# EAGLE library part 74AC11021 (library 74ac-logic)
Dual 4-input AND
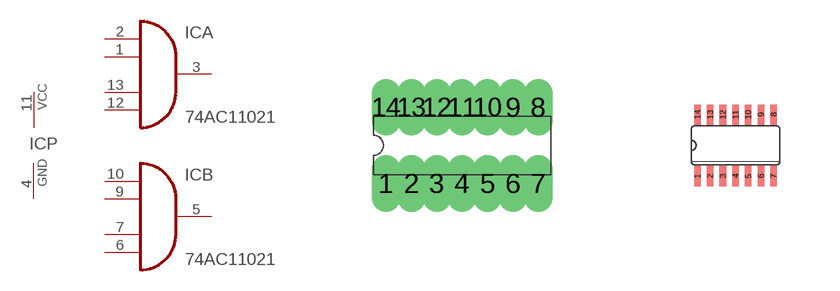
[diagram p7: symbol with the pads of DIL14; footprints DIL14, SO14]

Designator prefix IC; gates A=7411021 B=7411021 P=PWRN

## 74AC11021  [DIL14]
1  A:I1  in
2  A:I0  in
3  A:O  out
4  P:GND  pwr
5  B:O  out
6  B:I3  in
7  B:I2  in
9  B:I1  in
10  B:I0  in
11  P:VCC  pwr
12  A:I3  in
13  A:I2  in

## 74AC11021D  [SO14]
Pads as for DIL14

## Footprint DIL14 (pad centres in mm)
Dual In Line Package
drill 0.203 long: 1 -1.905,-0.953; 2 -1.27,-0.953; 3 -0.635,-0.953; 4 0,-0.953; 5 0.635,-0.953; 6 1.27,-0.953; 7 1.905,-0.953; 8 1.905,0.953; 9 1.27,0.953; 10 0.635,0.953; 11 0,0.953; 12 -0.635,0.953; 13 -1.27,0.953; 14 -1.905,0.953

## Footprint SO14 (pad centres in mm)
Small Outline package 150 mil
smd 0.165 x 0.508: 1 -0.953,-0.768; 2 -0.635,-0.768; 3 -0.318,-0.768; 4 0,-0.768; 5 0.318,-0.768; 6 0.635,-0.768; 7 0.953,-0.768; 8 0.953,0.768; 9 0.635,0.768; 10 0.318,0.768; 11 0,0.768; 12 -0.318,0.768; 13 -0.635,0.768; 14 -0.953,0.768